# Altium schematic symbol library ADS8588SIPM.SchLib: 1 symbol
Pins are listed as number, name and electrical type; pins without a type are passive.

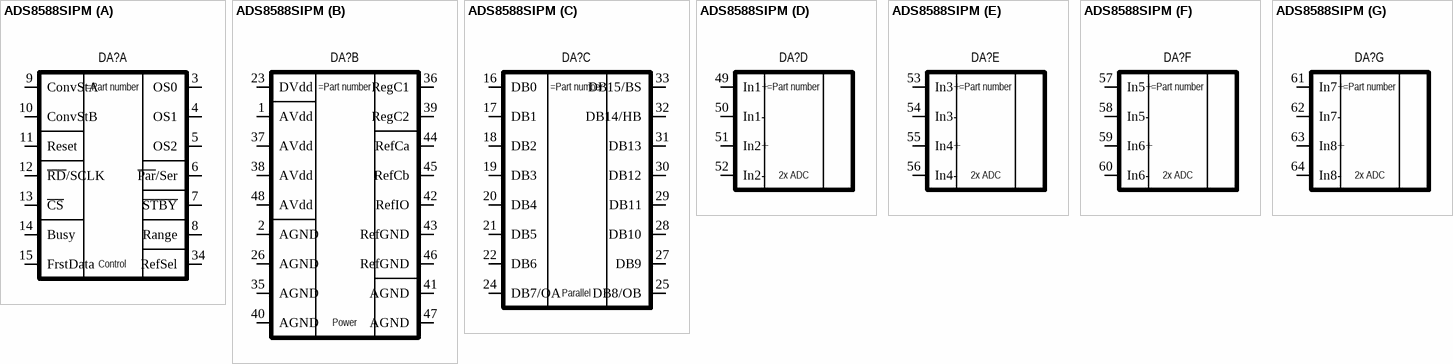
[diagram p0: symbol ADS8588SIPM]

## ADS8588SIPM
designator DA?
16-Bit, High-Speed, 8-Channel, Simultaneous-Sampling ADC with Bipolar Inputs on a Single Supply
part A pins: 3 OS0, 4 OS1, 5 OS2, 6 ~{Par}/Ser, 7 ~{STBY}, 8 Range, 9 ConvStA, 10 ConvStB, 11 Reset, 12 ~{RD}/SCLK, 13 ~{CS}, 14 Busy, 15 FrstData, 34 RefSel
part B pins: 1 AVdd, 2 AGND, 23 DVdd, 26 AGND, 35 AGND, 36 RegC1, 37 AVdd, 38 AVdd, 39 RegC2, 40 AGND, 41 AGND, 42 RefIO, 43 RefGND, 44 RefCa, 45 RefCb, 46 RefGND, 47 AGND, 48 AVdd
part C pins: 16 DB0, 17 DB1, 18 DB2, 19 DB3, 20 DB4, 21 DB5, 22 DB6, 24 DB7/OA, 25 DB8/OB, 27 DB9, 28 DB10, 29 DB11, 30 DB12, 31 DB13, 32 DB14/HB, 33 DB15/BS
part D pins: 49 In1+, 50 In1-, 51 In2+, 52 In2-
part E pins: 53 In3+, 54 In3-, 55 In4+, 56 In4-
part F pins: 57 In5+, 58 In5-, 59 In6+, 60 In6-
part G pins: 61 In7+, 62 In7-, 63 In8+, 64 In8-
part A text: Control
part B text: Power
part C text: Parallel
part D text: 2x ADC
part E text: 2x ADC
part F text: 2x ADC
part G text: 2x ADC